# Altium footprint library QUTMS_LEDs.PcbLib: 1 footprints
Each footprint in its own frame and in the unit in brackets; x right, y up, seen from the top. Pads: shape width x height; smd on the part's side, far side on the other; paste and mask are expansions set on the pad; w line width, h text height; cw(c..) or ccw(c..) is an arc to the next point about the centre after c.
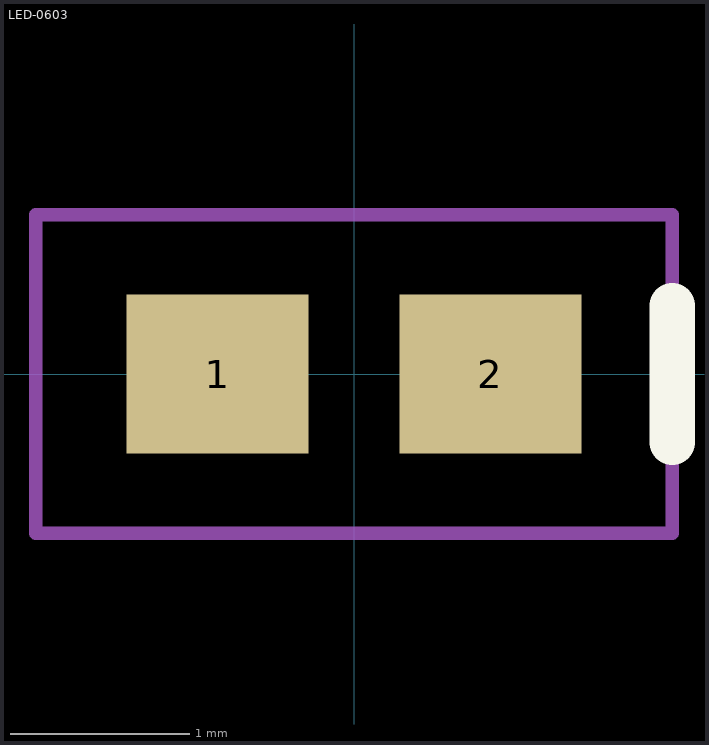
[diagram p0: the footprint, top view; thin cyan lines are the x and y axes]

## LED-0603 [mil]
pads (2):
  rect 40x35 smd: 1(-30,0) 2(30,0)
Top Overlay:
  lines w10: 70,-15 70,15
Mechanical 1:
  lines w3: -70,-35 70,-35 70,35 -70,35 -70,-35
3D body: height 20, standoff 0, extent -45,-17.5 45,17.5